# EAGLE library part GF-126-0159_DPDT_SWITCH (library Tristan_Robitaille's_Library)
CW Industries GF-126-0159 DPDT Thru-Hole Switch Tehcnical specifications: Max. rated current: 3A (AC), 500mA (DC) Max. rated voltage: 125V (AC), 125V (DC) Siwtch travel: 3.61mm RoHS Compliant Datasheet <http://media.digikey.com/pdf/Data%20Sheets/CW%20Industries%20PDFs/GF-126-0159.pdf> Digi-Key part #: SW342-ND <http://www.digikey.ca/product-detail/en/cw-industries/GF-126-0159/SW342-ND/226663> Mouser part #: 629-GF1260159 <http://ca.mouser.com/ProductDetail/CW-Industries/GF-126-0159/?qs=%2fha2pyFaduizgFgikLFm9DKqitz4w%252bOzFTTzz7%2f%2fGXM%3d> Manufacturer part #: GF-126-0159
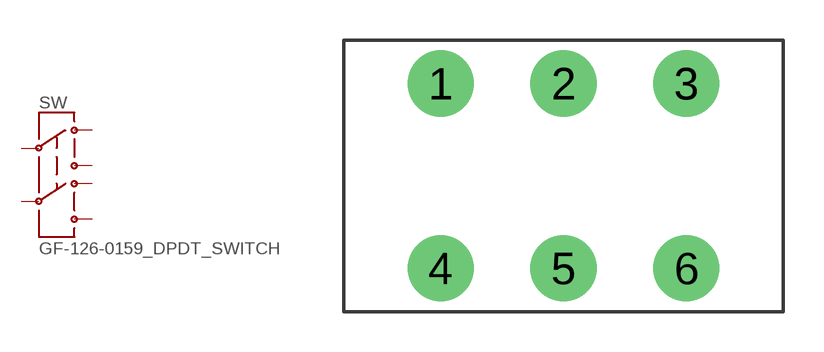
[diagram p26: symbol with the pads of GF-126-0159_DPDT_SWITCH; footprint GF-126-0159_DPDT_SWITCH]

Designator prefix SW

## GF-126-0159_DPDT_SWITCH (DIGIKEY#: SW342-ND; MANF: GF-126-0159 DPDT Slide Switch; MANF#: GF-126-0159; MOUSER#: 629-GF1260159)  [GF-126-0159_DPDT_SWITCH]
1  1
2  2
3  3
4  4
5  5
6  6

## Footprint GF-126-0159_DPDT_SWITCH (pad centres in mm)
drill 1.65: 1 -4.6,3.455; 2 0,3.455; 3 4.6,3.455; 4 -4.6,-3.455; 5 0,-3.455; 6 4.6,-3.455